# Altium footprint library RLC.PcbLib: 64 footprints (part 2 of 4)
Each footprint in its own frame and in the unit in brackets; x right, y up, seen from the top. Pads: shape width x height; smd on the part's side, far side on the other; paste and mask are expansions set on the pad; w line width, h text height; cw(c..) or ccw(c..) is an arc to the next point about the centre after c.
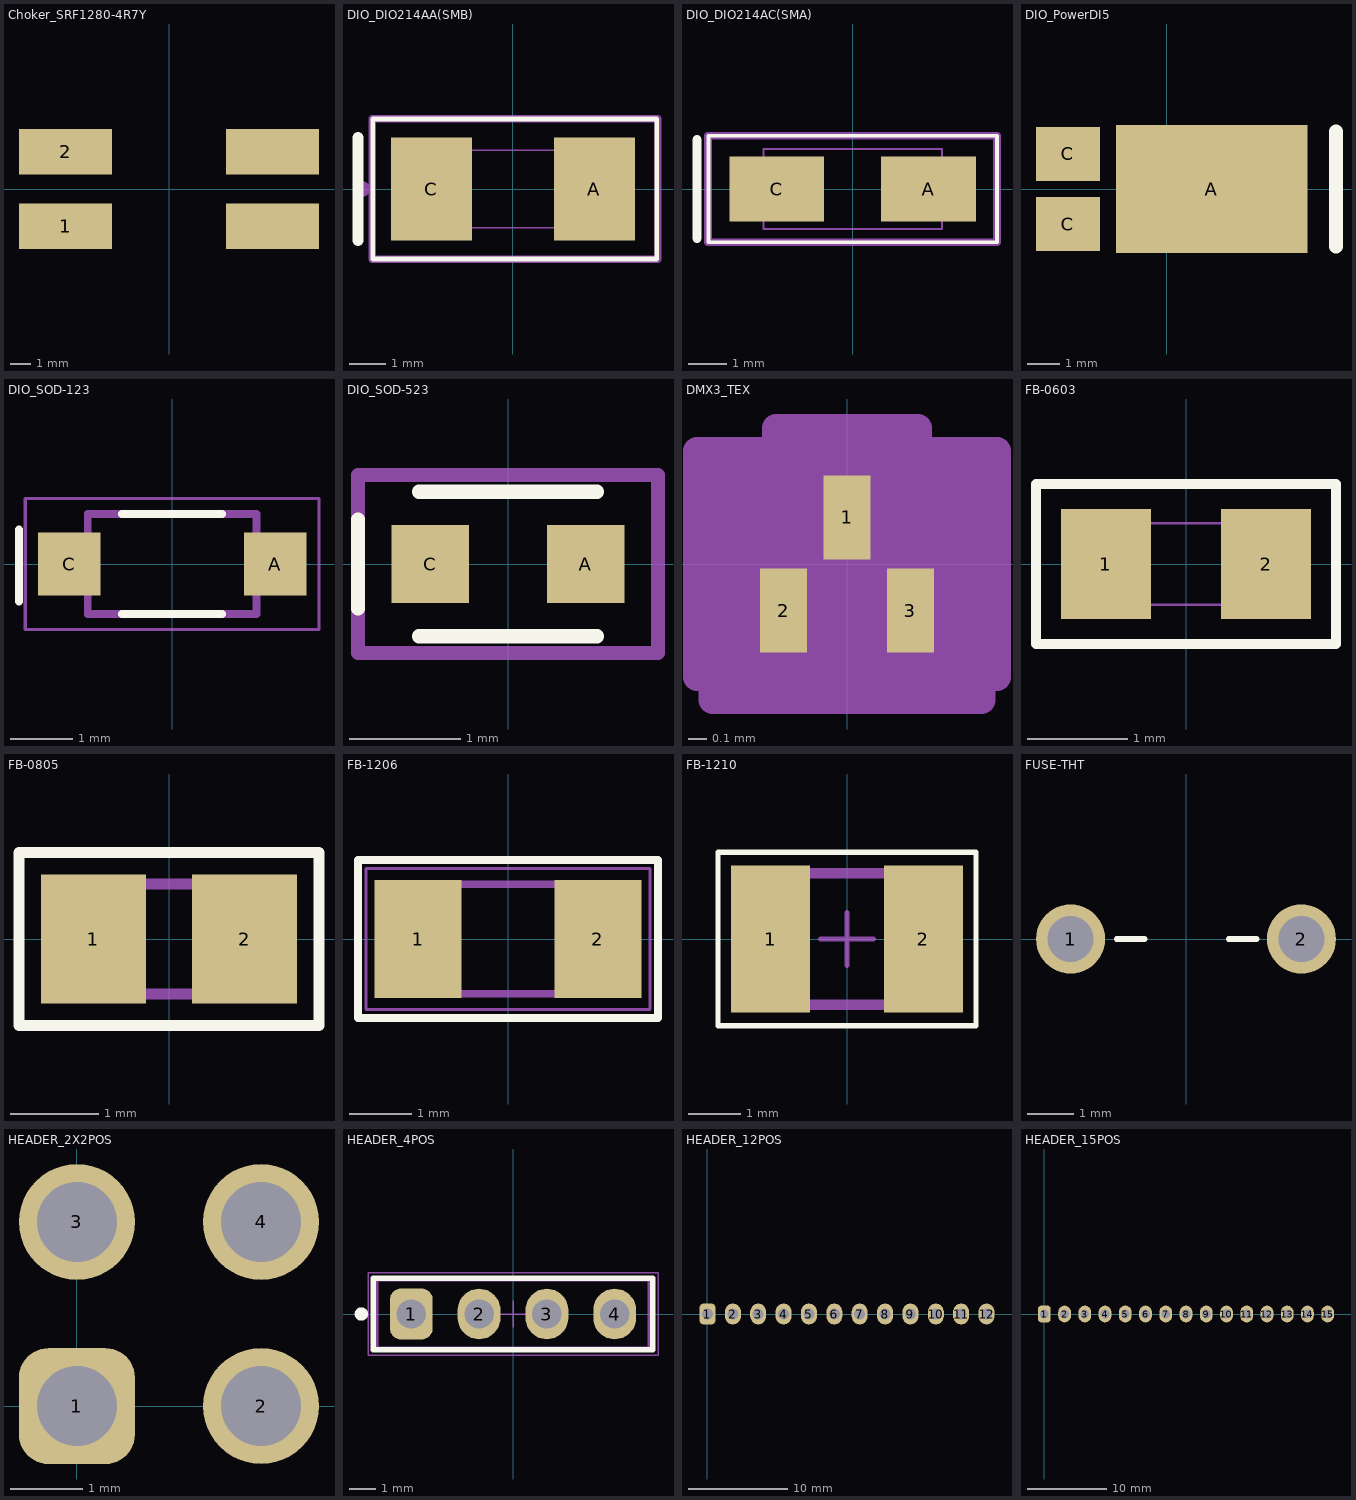
[diagram p1: the footprints below, top view; thin cyan lines are the x and y axes]

## Choker_SRF1280-4R7Y [mm]
height 5
pads (4):
  rect 4.5x2.2 smd: 1(-5,-1.8) 2(-5,1.8) ""(5,-1.8) ""(5,1.8)
Top Overlay:
  circle w0.2: c-6.25,-2.25 r0.1
Mechanical 1:
  text "6mm X 6mm SPST" at -5.769,3.756 h0.8
Mechanical 13:
  circle w0.2: c-6.25,-2.25 r0.1
3D body "SRF1280-4R7Y_2LaneChoker.stp": height 7.8, standoff -0.2, extent -6.25,-6.25 6.25,6.25

## DIO_DIO214AA(SMB) [mm]
height 1.35
pads (2):
  rect 2.2x2.8 smd: A(2.21,0) C(-2.21,0)
Top Overlay:
  lines w0.127: -3.8,-1.9 3.9,-1.9 3.9,1.9 -3.8,1.9 -3.8,-1.9
  lines w0.3: -4.2,-1.4 -4.2,1.4
Mechanical 13:
  circle w0.2: c-4.064,0 r0.1
  lines w0.2: -3.81,-1.905 3.937,-1.905 3.937,1.905 -3.81,1.905 -3.81,-1.905
Mechanical 15:
  lines w0.05: -2.35,-1.05 -2.35,1.05 2.35,1.05 2.35,-1.05 -2.35,-1.05
3D body "DIO214AA(SMB).STEP": height 2.21, standoff 0, extent -2.603,-1.308 2.604,1.308

## DIO_DIO214AC(SMA) [mm]
height 1.35
pads (2):
  rect 2.5x1.7 smd: A(2,0) C(-2,0)
Top Overlay:
  lines w0.1: -3.8,-1.4 3.8,-1.4 3.8,1.4 -3.8,1.4 -3.8,-1.4
  lines w0.25: -4.1,-1.3 -4.1,1.3
Mechanical 13:
  lines w0.2: -3.81,-1.4 3.8,-1.4 3.8,1.4 -3.81,1.4 -3.81,-1.4
Mechanical 15:
  lines w0.05: -2.35,-1.05 -2.35,1.05 2.35,1.05 2.35,-1.05 -2.35,-1.05
3D body "DIODE_DIO214AC(SMA).step": height 2.4, standoff 0, extent -2.597,-1.303 2.597,1.303

## DIO_PowerDI5 [mm]
height 1.35
pads (3):
  rect 6x4 smd: A(1.4,0)
  rect 2x1.7 smd: C(-3.1,-1.1) C(-3.1,1.1)
Top Overlay:
  lines w0.45: 5.3,-1.8 5.3,1.8
3D body "SBRT20M60SP5-13_DIO.step": height 1.2, standoff 0, extent -3.556,-2.019 3.556,2.019

## DIO_SOD-123 [mm]
height 1.35
pads (2):
  rect 1x1 smd: A(1.65,0) C(-1.65,0)
Top Overlay:
  lines w0.127: -2.45,-0.6 -2.45,0.55 ; -0.8,-0.8 0.8,-0.8 ; -0.8,0.8 0.8,0.8
Mechanical 13:
  lines w0.127: -1.35,-0.8 -1.35,0.8 1.35,0.8 1.35,-0.8 -1.35,-0.8
Mechanical 15:
  lines w0.05: -2.35,-1.05 -2.35,1.05 2.35,1.05 2.35,-1.05 -2.35,-1.05
3D body "MMSZ4681T1G.step": height 1.35, standoff 0, extent -1.84,-0.8 1.84,0.8

## DIO_SOD-523 [mm]
height 1.35
pads (2):
  rect 0.7x0.7 smd mask+0.07: A(0.7,0) C(-0.7,0)
Top Overlay:
  lines w0.127: -1.35,-0.4 -1.35,0.4 ; -0.8,-0.65 0.8,-0.65 ; -0.8,0.65 0.8,0.65
Mechanical 13:
  lines w0.127: -1.35,-0.8 -1.35,0.8 1.35,0.8 1.35,-0.8 -1.35,-0.8
3D body "SOD523_DIO.step": height 0.82, standoff 0, extent -0.85,-0.45 0.85,0.45

## DMX3_TEX [mm]
pads (3):
  rect 0.25x0.45 smd paste+0 mask+0: 1(0,0.25) 2(-0.34,-0.25) 3(0.34,-0.25)
Mechanical 13:
  circle w0: c-0.296,-0.096 r0.127
  lines w0.025: -0.55,-0.35 0.55,-0.35 0.55,0.35 -0.55,0.35 -0.55,-0.35 ; -0.465,-0.35 -0.215,-0.35 -0.215,-0.275 -0.465,-0.275 -0.465,-0.35 ; -0.125,0.275 0.125,0.275 0.125,0.35 -0.125,0.35 -0.125,0.275 ; 0.215,-0.35 0.465,-0.35 0.465,-0.275 0.215,-0.275 0.215,-0.35
Mechanical 15:
  region: -0.804,-0.604 -0.804,0.604 -0.379,0.604 -0.379,0.729 0.379,0.729 0.379,0.604 0.804,0.604 0.804,-0.604 0.719,-0.604 0.719,-0.729 -0.719,-0.729 -0.719,-0.604
  region: 0.55,-0.35 -0.55,-0.35 -0.55,0.35 0.55,0.35
  lines w0.152: -0.804,-0.604 -0.804,0.604 -0.379,0.604 -0.379,0.729 0.379,0.729 0.379,0.604 0.804,0.604 0.804,-0.604 0.719,-0.604 0.719,-0.729 -0.719,-0.729 -0.719,-0.604 -0.804,-0.604
3D body "DMX3_TEX.step": height 0.45, standoff 0, extent -0.55,-0.35 0.55,0.35

## FB-0603 [mm]
pads (2):
  rect 0.9x1.1 smd paste+0 mask+0.06: 1(-0.8,0) 2(0.8,0)
Top Overlay:
  lines w0.1: -1.5,-0.8 -1.5,0.8 1.5,0.8 1.5,-0.8 -1.5,-0.8
Mechanical 13:
  lines w0.025: -0.8,-0.406 -0.8,0.406 ; -0.8,-0.406 0.8,-0.406 ; -0.8,-0.406 -0.394,-0.406 -0.394,0.406 -0.8,0.406 ; -0.8,-0.406 -0.8,0.406 ; -0.8,0.406 0.8,0.406 ; 0.8,-0.406 0.8,0.406 ; 0.8,-0.406 0.8,0.406 ; 0.8,-0.406 0.394,-0.406 0.394,0.406 0.8,0.406
3D body "RC0603N_YAG.step": height 0.71, standoff 0, extent -0.8,-0.406 0.8,0.406

## FB-0805 [mm]
pads (2):
  rect 1.2x1.47 smd mask+0.09: 1(-0.86,0) 2(0.86,0)
Top Overlay:
  lines w0.127: -1.708,-0.983 1.708,-0.983 1.708,0.983 -1.708,0.983 -1.708,-0.983
Mechanical 13:
  lines w0.127: -1,-0.625 -1,0.625 1,0.625 1,-0.625 -1,-0.625
3D body "step_temp.STEP": height 1.05, standoff 0, extent -1,-0.625 1,0.625

## FB-1206 [mm]
pads (2):
  rect 1.4x1.9 smd: 1(-1.445,0) 2(1.445,0)
Top Overlay:
  lines w0.127: -2.413,-1.27 -2.413,1.27 2.413,1.27 2.413,-1.27 -2.413,-1.27
Mechanical 13:
  lines w0.127: -1.68,-0.88 1.68,-0.88 1.68,0.88 -1.68,0.88 -1.68,-0.88
Mechanical 15:
  lines w0.05: -2.285,-1.135 2.285,-1.135 2.285,1.135 -2.285,1.135 -2.285,-1.135
3D body "FB-1206.step": height 1.6, standoff 0, extent -1.6,-0.92 1.6,0.88

## FB-1210 [mm]
pads (2):
  rect 1.5x2.8 smd paste+0 mask+0.06: 1(-1.45,0) 2(1.45,0)
Top Overlay:
  lines w0.1: -2.45,-1.65 2.45,-1.65 2.45,1.65 -2.45,1.65 -2.45,-1.65
Mechanical 13:
  lines w0.2: -1.6,-1.25 -1.6,1.25 1.6,1.25 1.6,-1.25 -1.6,-1.25
Mechanical 16:
  lines w0.1: -0.5,0 0.5,0 ; 0,-0.5 0,0.5
3D body "MI1210K600R-10.STEP": height 1.6, standoff 0, extent -1.6,-1.25 1.6,1.25

## FUSE-THT [mm]
pads (2):
  round 1.5 hole 1 mask+0.102: 1(-2.5,0) 2(2.5,0)
Top Overlay:
  lines w0.127: -1.5,0 -0.9,0 ; 0.927,-0.002 1.527,-0.002
3D body "FUS_RXEF050_TYCO_TYC.step": height 15.97, standoff -4.35, extent -3.937,-1.499 3.937,1.499

## HEADER_2X2POS [mm] "Pin Header, pitch 2.54 mm, THT, Vertical, single row, 4p"
height 8.54
pads (4):
  rrect50% 1.6x1.6 hole 1.1: 1(0,0)
  round 1.6 hole 1.1: 2(2.54,0) 3(0,2.54) 4(2.54,2.54)
3D body "model/2X2POS_HEADER.stp": height 8.3, standoff -3.18, extent -1.27,-1.27 3.81,3.81

## HEADER_4POS [mm] "Pin Header, pitch 2.54 mm, THT, Vertical, single row, 4p"
height 8.54
pads (4):
  rrect50% 1.6x1.9 hole 1.1: 1(-3.81,0)
  oval 1.6x1.9 hole 1.1: 2(-1.27,0) 3(1.27,0) 4(3.81,0)
Top Overlay:
  circle w0.25: c-5.68,0 r0.125
  lines w0.2: -5.23,-1.345 5.23,-1.345 5.23,1.345 -5.23,1.345 -5.23,-1.345
Top Courtyard:
  lines w0.05: -5.43,-1.545 -5.43,1.545 5.43,1.545 5.43,-1.545 -5.43,-1.545
Top Component Outline:
  lines w0.1: -5.08,-1.27 -5.08,1.27 5.08,1.27 5.08,-1.27 -5.08,-1.27
Top Component Center:
  lines w0.05: -0.5,0 0.5,0 ; 0,-0.5 0,0.5
3D body "61300411121.stp": height 8.57, standoff -2.97, extent -5.08,-1.27 5.08,1.27

## HEADER_12POS [mm] "Pin Header, pitch 2.54 mm, THT, Vertical, single row, 4p"
height 8.54
pads (12):
  rrect50% 1.6x2.1 hole 1.1: 1(0,0)
  oval 1.6x2.1 hole 1.1: 2(2.54,0) 3(5.08,0) 4(7.62,0) 5(10.16,0) 6(12.7,0) 7(15.24,0) 8(17.783,0) 9(20.323,0) 10(22.863,0) 11(25.403,0) 12(27.94,0)
3D body "61300411121.stp": height 8.57, standoff -2.97, extent 19.05,-1.27 29.21,1.27
3D body "61300411121.stp": height 8.57, standoff -2.97, extent 8.89,-1.27 19.05,1.27
3D body "61300411121.stp": height 8.57, standoff -2.97, extent -1.27,-1.27 8.89,1.27

## HEADER_15POS [mm] "Pin Header, pitch 2.54 mm, THT, Vertical, single row, 4p"
height 8.54
pads (15):
  rrect50% 1.6x2.1 hole 1.1: 1(0,0)
  oval 1.6x2.1 hole 1.1: 2(2.54,0) 3(5.08,0) 4(7.62,0) 5(10.16,0) 6(12.7,0) 7(15.24,0) 8(17.783,0) 9(20.323,0) 10(22.863,0) 11(25.403,0) 12(27.94,0) 13(30.48,0) 14(33.02,0) 15(35.56,0)
3D body "61300411121.stp": height 8.57, standoff -2.97, extent -1.27,-1.27 8.89,1.27
3D body "61300411121.stp": height 8.57, standoff -2.97, extent 8.89,-1.27 19.05,1.27
3D body "61300411121.stp": height 8.57, standoff -2.97, extent 19.05,-1.27 29.21,1.27
3D body "61300411121.stp": height 8.57, standoff -2.97, extent 26.67,-1.27 36.83,1.27